# Altium footprint library 2019-07-21_05-52-01.PcbLib: 5 footprints
Each footprint in its own frame and in the unit in brackets; x right, y up, seen from the top. Pads: shape width x height; smd on the part's side, far side on the other; paste and mask are expansions set on the pad; w line width, h text height; cw(c..) or ccw(c..) is an arc to the next point about the centre after c.
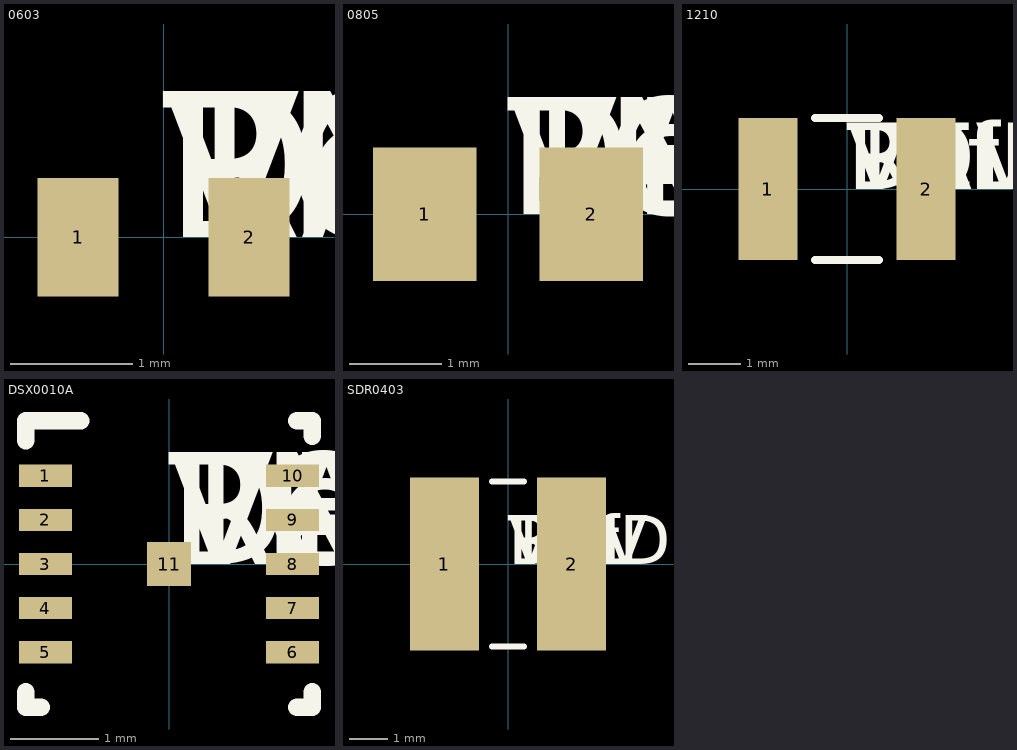
[diagram p0: the footprints below, top view; thin cyan lines are the x and y axes]

## 0603 [mil]
pads (2):
  rect 26x38 smd: 1(-27.5,0) 2(27.5,0)
Top Overlay:
  text "RefDes" at 0,0 h50
  text "DEV" at 0,0 h50
  text "PN" at 0,0 h50
  text "DEV" at 0,0 h50
  text "VAL" at 0,0 h50
  text "TOL" at 0,0 h50
3D body "0603.stp": height 20, standoff 0, extent -34.5,-19 34.5,19

## 0805 [mil]
pads (2):
  rect 44x57 smd: 1(-35.5,0) 2(35.5,0)
Top Overlay:
  text "RefDes" at 0,0 h50
  text "DEV" at 0,0 h50
  text "PN" at 0,0 h50
  text "DEV" at 0,0 h50
  text "VAL" at 0,0 h50
  text "TOL" at 0,0 h50
3D body "0805.stp": height 57, standoff 0, extent -43.5,-28.5 43.5,28.5

## 1210 [mil]
pads (2):
  rect 44x106 smd: 1(-59,0) 2(59,0)
Top Overlay:
  lines w6: -23.9,-53 23.9,-53 ; -23.9,53 23.9,53
  text "RefDes" at 0,0 h50
  text "DEV" at 0,0 h50
  text "PN" at 0,0 h50
  text "DEV" at 0,0 h50
  text "VAL" at 0,0 h50
  text "TOL" at 0,0 h50
3D body "1210.stp": height 59, standoff 0, extent -67,-53 67,53

## DSX0010A [mm]
pads (11):
  rect 0.6x0.25 smd paste+0 mask+0.076: 1(-1.4,1) 2(-1.4,0.5) 3(-1.4,0) 4(-1.4,-0.5) 5(-1.4,-1) 6(1.4,-1) 7(1.4,-0.5) 8(1.4,0) 9(1.4,0.5) 10(1.4,1)
  rect 0.5x0.5 smd paste-0.237 mask+0.051: 11(0,0)
Top Overlay:
  lines w0.2: -1.625,-1.45 -1.625,-1.625 -1.45,-1.625 ; -1.625,1.4 -1.625,1.625 -1,1.625 ; 1.45,-1.625 1.625,-1.625 1.625,-1.45 ; 1.45,1.625 1.625,1.625 1.625,1.45
  text "RefDes" at 0,0 h1.27
  text "DEV" at 0,0 h1.27
  text "PN" at 0,0 h1.27
  text "DEV" at 0,0 h1.27
  text "VAL" at 0,0 h1.27
  text "TOL" at 0,0 h1.27
Top Paste:
  region: -0.75,1.16 -0.75,0.1 0.75,0.1 0.75,1.16
  region: 0.75,-1.16 0.75,-0.1 -0.75,-0.1 -0.75,-1.16
  region: -0.375,1.7 -0.375,1.36 -0.125,1.36 -0.125,1.7
  region: 0.375,-1.7 0.375,-1.36 0.125,-1.36 0.125,-1.7
  region: 0.375,1.36 0.375,1.7 0.125,1.7 0.125,1.36
  region: -0.375,-1.36 -0.375,-1.7 -0.125,-1.7 -0.125,-1.36
3D body: height 0.25, standoff 0, extent 0,0 0.254,0.254

## SDR0403 [mil]
pads (2):
  rect 71x177 smd: 1(-65,0) 2(65,0)
Top Overlay:
  lines w6: -16.4,-84.5 16.4,-84.5 ; -16.4,84.5 16.4,84.5
  text "RefDes" at 0,0 h50
  text "DEV" at 0,0 h50
  text "PN" at 0,0 h50
  text "DEV" at 0,0 h50
  text "VAL" at 0,0 h50
  text "TOL" at 0,0 h50
3D body "SDR0403.stp": height 150, standoff 0, extent -106.5,-94.5 106.5,94.5